# Altium footprint library PcbLib1.PcbLib: 17 footprints (part 2 of 2)
Each footprint in its own frame and in the unit in brackets; x right, y up, seen from the top. Pads: shape width x height; smd on the part's side, far side on the other; paste and mask are expansions set on the pad; w line width, h text height; cw(c..) or ccw(c..) is an arc to the next point about the centre after c.
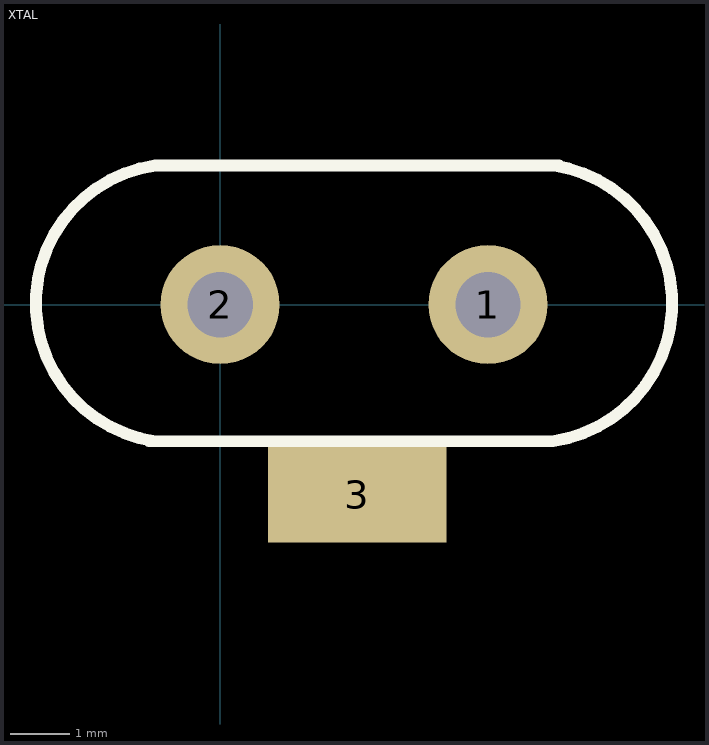
[diagram p1: the footprint, top view; thin cyan lines are the x and y axes]

## XTAL [mm]
height 0.6
pads (3):
  round 2 hole 1.1: 1(4.5,0) 2(0,0)
  rect 3x1.6 smd: 3(2.303,-3.197)
Top Overlay:
  lines w0.2: 3.093,2.338 -1.094,2.338 ; 4.791,2.338 -1.094,2.338 ; 5.69,2.338 -1.094,2.338 ; -1.094,-2.298 cw(c-0.756,0.02) -1.094,2.338 ; -1.094,-2.298 cw(c-0.756,0.02) -1.094,2.338 ; -1.094,-2.298 cw(c-0.756,0.02) -1.094,2.338 ; 5.591,-2.297 ccw(c5.252,0.021) 5.591,2.338 ; 5.591,-2.297 ccw(c5.252,0.021) 5.591,2.338 ; 5.591,-2.297 ccw(c5.252,0.021) 5.591,2.338 ; 5.591,-2.297 ccw(c5.252,0.021) 5.591,2.338 ; 5.591,-2.297 ccw(c5.252,0.021) 5.591,2.338 ; 5.591,-2.297 ccw(c5.252,0.021) 5.591,2.338 ; 5.591,-2.297 -1.194,-2.298 5.591,-2.297 ; 5.591,-2.297 1.404,-2.298 5.591,-2.297 ; 5.591,-2.297 -0.295,-2.298 5.591,-2.297
3D body: height 5, standoff 0, extent -3.11,-2.3 7.606,2.341